# Altium integrated library NHD-0216K1Z-NSW-BBW-L.IntLib: 1 symbol
Pins are listed as number, name and electrical type; pins without a type are passive.

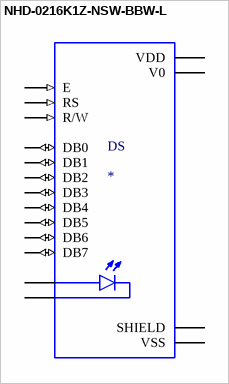
[diagram p0: symbol NHD-0216K1Z-NSW-BBW-L]

## NHD-0216K1Z-NSW-BBW-L
designator DS
Character LCD Display Module Transmissive 5 x 8 Dots STN - Super-Twisted Nematic LED - White Parallel 80.00mm x 36.00mm x 13.50mm; MP: NHD-0216K1Z-NSW-BBW-L; MF: Newhaven Display; Package: None; DigiKey-Purchase-URL: https://snapeda.com/shop?store=DigiKey&id=55814; Digi-Key_Part_Number: NHD-0216K1Z-NSW-BBW-L-ND; Value: *; SnapEDA_Link: https://www.snapeda.com/parts/NHD-0216K1Z-NSW-BBW-L/Newhaven%20Display%20Intl/view-part/55814/?ref=snap
footprint NHD_NHD-0216K1Z-NSW-BBW-L
pins: 1_1 VSS (power), 1_2 VSS (power), 2_1 VDD (power), 2_2 VDD (power), 3_1 V0 (power), 3_2 V0 (power), 4_1 RS (in), 4_2 RS (in), 5_1 R/W (in), 5_2 R/W (in), 6_1 E (in), 6_2 E (in), 7_1 DB0 (io), 7_2 DB0 (io), 8_1 DB1 (io), 8_2 DB1 (io), 9_1 DB2 (io), 9_2 DB2 (io), 10_1 DB3 (io), 10_2 DB3 (io), 11_1 DB4 (io), 11_2 DB4 (io), 12_1 DB5 (io), 12_2 DB5 (io), 13_1 DB6 (io), 13_2 DB6 (io), 14_1 DB7 (io), 14_2 DB7 (io), 15_1 LED+, 15_2 LED+, 16_1 LED-, 16_2 LED-, S1 SHIELD, S2 SHIELD, S3 SHIELD, S4 SHIELD